# Altium integrated library ERA8ARW103V.IntLib: 1 symbol
Pins are listed as number, name and electrical type; pins without a type are passive.

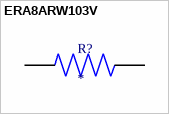
[diagram p0: symbol ERA8ARW103V]

## ERA8ARW103V
designator R?
MP: ERA8ARW103V; Availability: Unavailable; Package: None; Price: None; Value: *
footprint RES_ERA8ARW103V
pins: 1, 2